# EAGLE library part BQ24650 (library monitoring_board)
Texas Instruments -- bq24650 Synchronous Switch-Mode Battery Charge Controller for Solar Power With Maximum Power Point Tracking
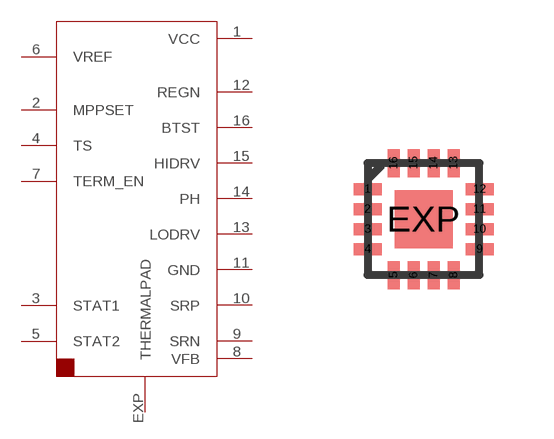
[diagram p2: symbol with the pads of BQ24650; footprint BQ24650]

Designator prefix -

## BQ24650  [BQ24650]
1  VCC
2  MPPSET
3  STAT1
4  TS
5  STAT2
6  VREF
7  TERM_EN
8  VFB
9  SRN
10  SRP
11  GND
12  REGN
13  LODRV
14  PH
15  HIDRV
16  BTST
EXP  THERMALPAD

## Footprint BQ24650 (pad centres in mm)
16-Lead Plastic QFN (3mm × 3mm) Auto generated by make-symbol-device-package-bsdl.ulp Rev. 44 Source: http://cds.linear.com/docs/en/datasheet/3645f.pdf
smd 0.7 x 0.3: 1 -1.4,0.75; 2 -1.4,0.25; 3 -1.4,-0.25; 4 -1.4,-0.75; 9 1.4,-0.75; 10 1.4,-0.25; 11 1.4,0.25; 12 1.4,0.75
smd 0.3 x 0.7: 5 -0.75,-1.4; 6 -0.25,-1.4; 7 0.25,-1.4; 8 0.75,-1.4; 13 0.75,1.4; 14 0.25,1.4; 15 -0.25,1.4; 16 -0.75,1.4
smd 1.45 x 1.45: EXP 0,0